# EAGLE library part BH004 (library Traficon)
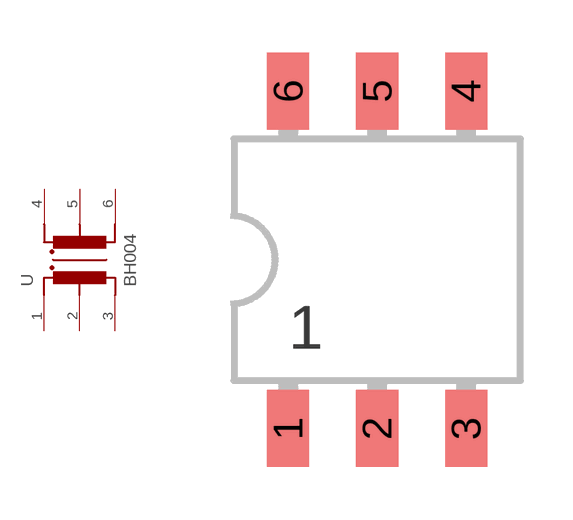
[diagram p6: symbol with the pads of DIP6; footprint DIP6]

Designator prefix -

## BH004  [DIP6]
1  1  pas
2  2  pas
3  3  pas
4  4  pas
5  5  pas
6  6  pas

## Footprint DIP6 (pad centres in mm)
SMD DIL08 dual in line package'
smd 1.2 x 2.2: 1 -2.54,-4.816; 2 0,-4.816; 3 2.54,-4.816; 4 2.54,4.816; 5 0,4.816; 6 -2.54,4.816